# Altium schematic symbol library RLB0913-4R7K.SchLib: 2 symbols
Pins are listed as number, name and electrical type; pins without a type are passive.

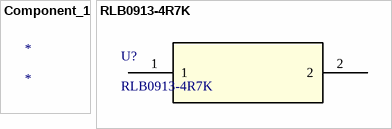
[diagram p0: symbols Component_1 to RLB0913-4R7K]

## Component_1
designator *

## RLB0913-4R7K
designator U?
No Description Available; Mfr_Name: Bourns Electronics; Copyright: Copyright (C) 2022 Ultra Librarian. All rights reserved.; Manufacturer_Part_Number: RLB0913-4R7K; RefDes: RefDes; Type: DEV
footprint RLB0913-4R7K_BRN
pins: 1, 2